# Altium integrated library DT15-12PA.IntLib: 1 symbol
Pins are listed as number, name and electrical type; pins without a type are passive.

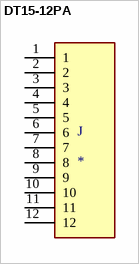
[diagram p0: symbol DT15-12PA]

## DT15-12PA
designator J
DT Series 12 Position Dual Row 4.44 mm Panel Mount Receptacle; MF: TE Connectivity; MP: DT15-12PA; Value: *; Package: None; Availability: Unavailable; SnapEDA_Link: https://www.snapeda.com/parts/DT15-12PA/TE%20Connectivity%20Deutsch%20Connectors/view-part/2279777/?ref=snap; Price: None
footprint TE_DT15-12PA
pins: 1, 2, 3, 4, 5, 6, 7, 8, 9, 10, 11, 12